# Altium schematic symbol library SCH - CHARGER - TI BQ25171-Q1.SchLib: 1 symbol
Pins are listed as number, name and electrical type; pins without a type are passive.

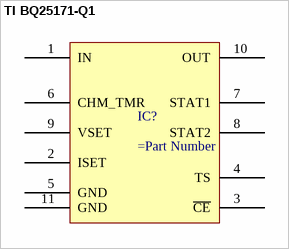
[diagram p0: symbol TI BQ25171-Q1]

## TI BQ25171-Q1
designator IC?
pins: 1 IN, 2 ISET, 3 ~{CE}, 4 TS, 5 GND, 6 CHM_TMR, 7 STAT1, 8 STAT2, 9 VSET, 10 OUT, 11 GND